# EAGLE library part FET_N_ESD_DUAL (library !GPLIB_ACTIVE)
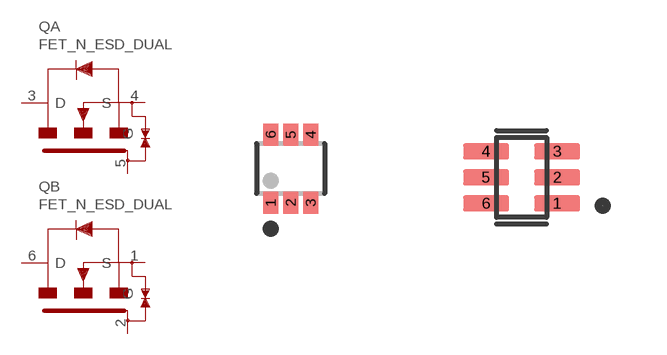
[diagram p29: symbol with the pads of SOT50P162X60-6N; footprints SOT50P162X60-6N, SOT65P210X110-6N]

Designator prefix Q; gates A=FET_N_ESD B=FET_N_ESD

## FET_N_ESD_DUAL_DMG1024UV-7  [SOT50P162X60-6N]
1  B:S  pas
2  B:G  in
3  A:D  pas
4  A:S  pas
5  A:G  in
6  B:D  pas

## FET_N_ESD_DUAL_2N7002DW  [SOT65P210X110-6N]
1  A:S  pas
2  A:G  in
3  B:D  pas
4  B:S  pas
5  B:G  in
6  A:D  pas

## Footprint SOT50P162X60-6N (pad centres in mm)
smd 0.375 x 0.55: 1 -0.5,-0.85; 2 0,-0.85; 3 0.5,-0.85; 4 0.5,0.85; 5 0,0.85; 6 -0.5,0.85

## Footprint SOT65P210X110-6N (pad centres in mm)
SOT-363, SC-88, SC70-6, SC-70-6
smd 1.15 x 0.4: 1 0.89,-0.65; 2 0.89,0; 3 0.89,0.65; 4 -0.89,0.65; 5 -0.89,0; 6 -0.89,-0.65